# Altium footprint library CD74HC4067M96.PcbLib: 1 footprints
Each footprint in its own frame and in the unit in brackets; x right, y up, seen from the top. Pads: shape width x height; smd on the part's side, far side on the other; paste and mask are expansions set on the pad; w line width, h text height; cw(c..) or ccw(c..) is an arc to the next point about the centre after c.
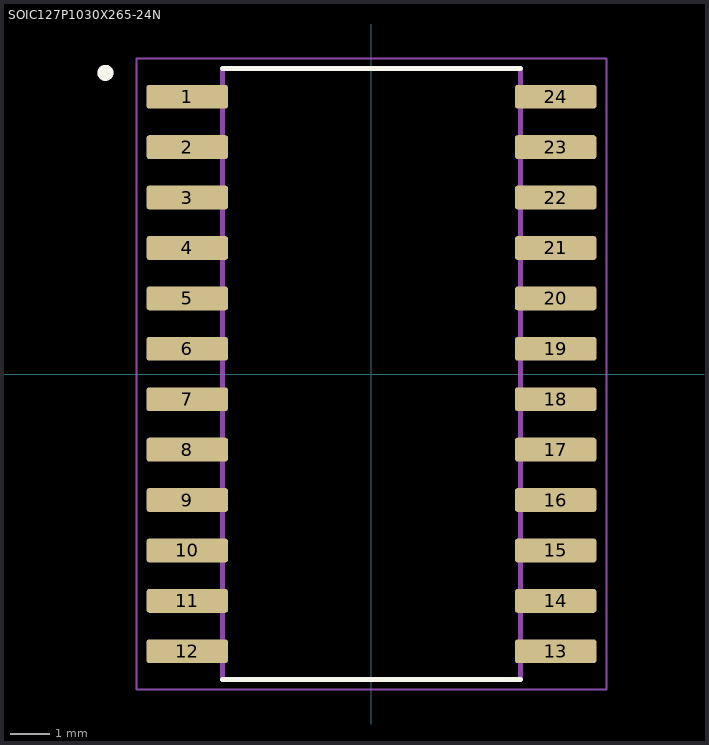
[diagram p0: the footprint, top view; thin cyan lines are the x and y axes]

## SOIC127P1030X265-24N [mm]
pads (24):
  rrect25% 2.06x0.6 smd: 1(-4.64,6.985) 2(-4.64,5.715) 3(-4.64,4.445) 4(-4.64,3.175) 5(-4.64,1.905) 6(-4.64,0.635) 7(-4.64,-0.635) 8(-4.64,-1.905) 9(-4.64,-3.175) 10(-4.64,-4.445) 11(-4.64,-5.715) 12(-4.64,-6.985) 13(4.64,-6.985) 14(4.64,-5.715) 15(4.64,-4.445) 16(4.64,-3.175) 17(4.64,-1.905) 18(4.64,-0.635) 19(4.64,0.635) 20(4.64,1.905) 21(4.64,3.175) 22(4.64,4.445) 23(4.64,5.715) 24(4.64,6.985)
Top Overlay:
  circle w0.2: c-6.7,7.585 r0.1
  lines w0.127: -3.75,-7.7 3.75,-7.7 ; -3.75,7.7 3.75,7.7
Mechanical 13:
  circle w0.2: c-6.7,7.585 r0.1
  lines w0.127: -3.75,-7.7 -3.75,7.7 3.75,7.7 3.75,-7.7 -3.75,-7.7
Mechanical 15:
  lines w0.05: -5.92,-7.95 -5.92,7.95 5.92,7.95 5.92,-7.95 -5.92,-7.95
3D body "step_temp.STEP": height 2.65, standoff 0, extent -5.15,-7.7 5.15,7.7